# EAGLE library part 2717 (library cots_dev)
Check availability <https://pricing.snapeda.com/parts/2717/Adafruit/view-part?ref=eda>
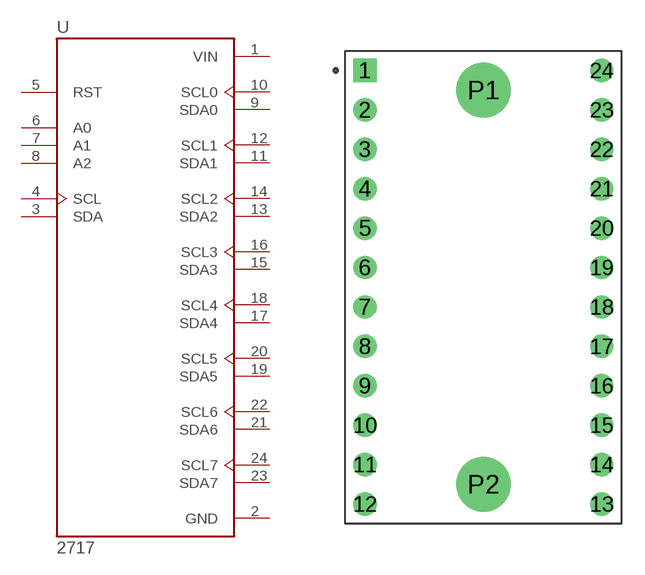
[diagram p2: symbol with the pads of MODULE_2717; footprint MODULE_2717]

Designator prefix U

## 2717 (AVAILABILITY: In Stock; DESCRIPTION: Module: multiplexer; I2C interface multiplexer; TCA9548A; 3÷5VDC; MF: Adafruit; MP: 2717; PACKAGE: None; PRICE: None)  [MODULE_2717]
1  VIN  pwr
2  GND  pwr
3  SDA
4  SCL  in
5  RST  in
6  A0  in
7  A1  in
8  A2  in
9  SDA0
10  SCL0  out
11  SDA1
12  SCL1  out
13  SDA2
14  SCL2  out
15  SDA3
16  SCL3  out
17  SDA4
18  SCL4  out
19  SDA5
20  SCL5  out
21  SDA6
22  SCL6  out
23  SDA7
24  SCL7  out

## Footprint MODULE_2717 (pad centres in mm)
drill 1 square: 1 -7.62,13.97
drill 1: 2 -7.62,11.43; 3 -7.62,8.89; 4 -7.62,6.35; 5 -7.62,3.81; 6 -7.62,1.27; 7 -7.62,-1.27; 8 -7.62,-3.81; 9 -7.62,-6.35; 10 -7.62,-8.89; 11 -7.62,-11.43; 12 -7.62,-13.97; 13 7.62,-13.97; 14 7.62,-11.43; 15 7.62,-8.89; 16 7.62,-6.35; 17 7.62,-3.81; 18 7.62,-1.27; 19 7.62,1.27; 20 7.62,3.81; 21 7.62,6.35; 22 7.62,8.89; 23 7.62,11.43; 24 7.62,13.97
drill 2.5: P1 0,12.7; P2 0,-12.7